# EAGLE library part AD8137YRZ (library Oscilloscope_Components v39)
Low Cost, Low Power, Differential ADC Driver Check availability <https://pricing.snapeda.com/parts/AD8137YRZ/Analog%20Devices/view-part?ref=eda>
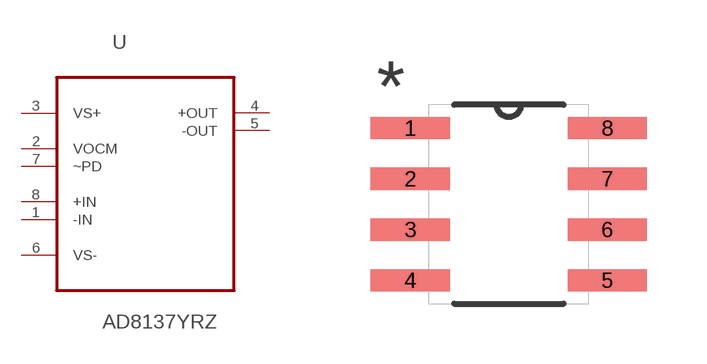
[diagram p2: symbol with the pads of SOIC127P600X175-8N; footprint SOIC127P600X175-8N]

Designator prefix U

## AD8137YRZ (AVAILABILITY: In Stock; CHECK_PRICES: https://www.snapeda.com/parts/AD8137YRZ/Analog+Devices/view-part/?ref=eda; DESCRIPTION: Low Cost, Low Power Differential ADC Driver; MF: Analog Devices; MP: AD8137YRZ; PACKAGE: SOIC-8 Analog Devices; PRICE: None; PURCHASE-URL: https://www.snapeda.com/api/url_track_click_mouser/?unipart_id=1160134&manufacturer=Analog Devices&part_name=AD8137YRZ&search_term=ad8137; SNAPEDA_LINK: https://www.snapeda.com/parts/AD8137YRZ/Analog+Devices/view-part/?ref=snap)  [SOIC127P600X175-8N]
1  -IN  in
2  VOCM  in
3  VS+  pwr
4  +OUT  out
5  -OUT  out
6  VS-  pwr
7  ~PD  in
8  +IN  in

## Footprint SOIC127P600X175-8N (pad centres in mm)
smd 1.981 x 0.559: 1 -2.464,1.905; 2 -2.464,0.635; 3 -2.464,-0.635; 4 -2.464,-1.905; 5 2.464,-1.905; 6 2.464,-0.635; 7 2.464,0.635; 8 2.464,1.905